# Altium footprint library halcyxn_lib_pcb.PcbLib: 35 footprints (part 3 of 3)
Each footprint in its own frame and in the unit in brackets; x right, y up, seen from the top. Pads: shape width x height; smd on the part's side, far side on the other; paste and mask are expansions set on the pad; w line width, h text height; cw(c..) or ccw(c..) is an arc to the next point about the centre after c.
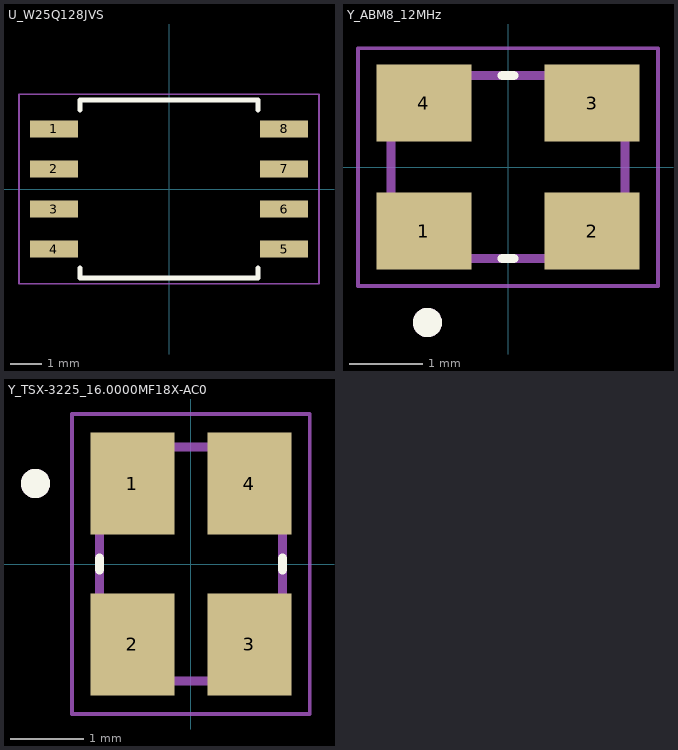
[diagram p2: the footprints below, top view; thin cyan lines are the x and y axes]

## U_W25Q128JVS [mil] "16MB Flash"
pads (8):
  rect 60x21 smd paste+0 mask+1.97: 1(-143.5,75) 2(-143.5,25) 3(-143.5,-25) 4(-143.5,-75) 5(143.5,-75) 6(143.5,-25) 7(143.5,25) 8(143.5,75)
Top Overlay:
  lines w6: -111,-98.36 -111,-111 111,-111 111,-98.36 ; -111,98.36 -111,111 111,111 111,98.36
Mechanical 15:
  lines w1.97: -187.01,-118.11 187.01,-118.11 187.01,118.11 -187.01,118.11 -187.01,-118.11
3D body "SOIC_208MIL_WIN.step": height 85.12, standoff 0, extent -159.49,-105.98 159.49,105.98

## Y_ABM8_12MHz [mm]
height 0.6
pads (4):
  rect 1.3x1.05 smd: 1(-1.15,-0.875) 2(1.15,-0.875) 3(1.15,0.875) 4(-1.15,0.875)
Top Overlay:
  circle w0.2: c-1.1,-2.125 r0.1
  lines w0.127: -0.08,-1.25 0.08,-1.25 ; -0.08,1.25 0.08,1.25
Mechanical 13:
  circle w0.2: c-1.1,-2.125 r0.1
  lines w0.127: -1.6,-1.25 1.6,-1.25 1.6,1.25 -1.6,1.25 -1.6,-1.25
Mechanical 15:
  lines w0.05: -2.05,-1.625 2.05,-1.625 2.05,1.625 -2.05,1.625 -2.05,-1.625
3D body "ABM8-272-T3.STEP": height 0.7, standoff 0, extent -1.6,-1.25 1.6,1.25

## Y_TSX-3225_16.0000MF18X-AC0 [mm]
height 0.6
pads (4):
  rect 1.15x1.4 smd: 1(-0.8,1.1) 2(-0.8,-1.1) 3(0.8,-1.1) 4(0.8,1.1)
Top Overlay:
  circle w0.2: c-2.125,1.1 r0.1
  lines w0.127: -1.25,-0.08 -1.25,0.08 ; 1.25,-0.08 1.25,0.08
Mechanical 13:
  circle w0.2: c-2.125,1.1 r0.1
  lines w0.127: -1.25,-1.6 -1.25,1.6 1.25,1.6 1.25,-1.6 -1.25,-1.6
Mechanical 15:
  lines w0.05: -1.625,-2.05 -1.625,2.05 1.625,2.05 1.625,-2.05 -1.625,-2.05
3D body "step_temp.STEP": height 0.6, standoff 0, extent -1.6,-1.25 1.6,1.25